# Altium footprint library SG__PCB_Chip.PcbLib: 121 footprints (part 2 of 8)
Each footprint in its own frame and in the unit in brackets; x right, y up, seen from the top. Pads: shape width x height; smd on the part's side, far side on the other; paste and mask are expansions set on the pad; w line width, h text height; cw(c..) or ccw(c..) is an arc to the next point about the centre after c.
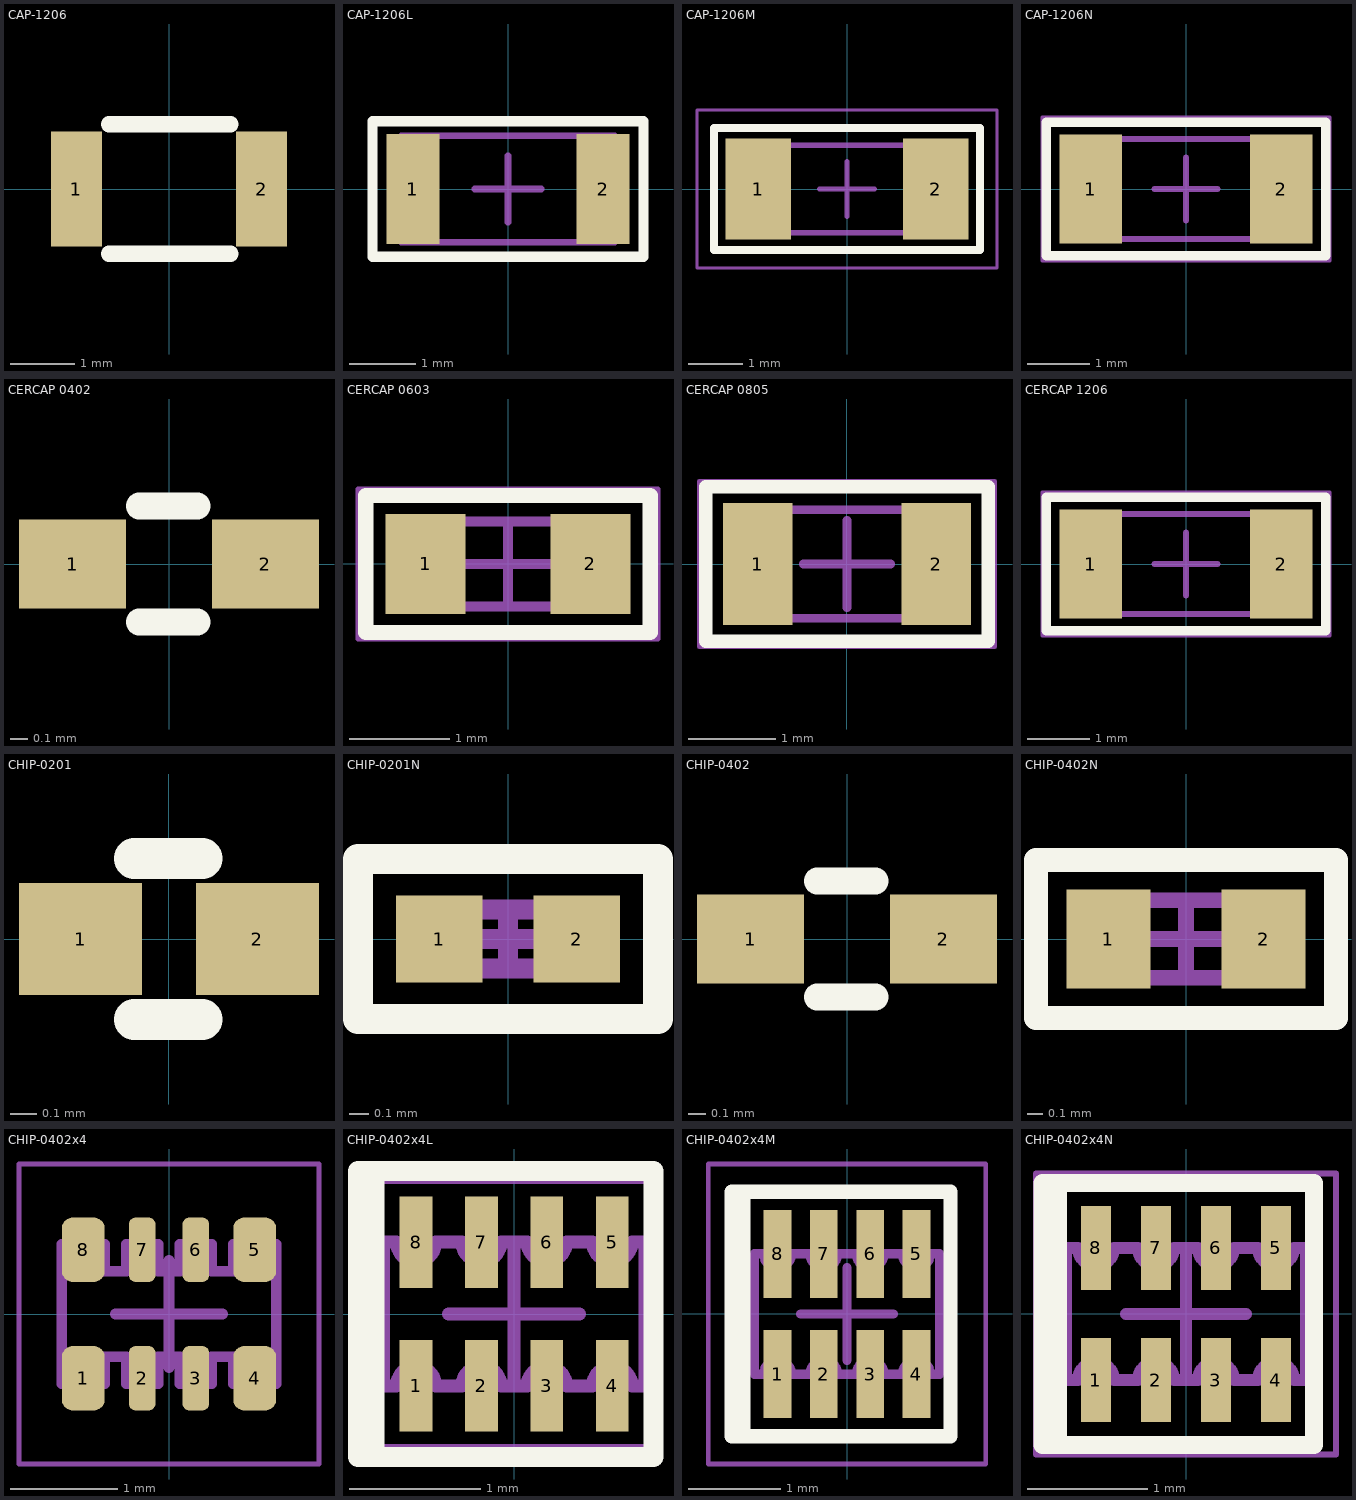
[diagram p1: the footprints below, top view; thin cyan lines are the x and y axes]

## CAP-1206 [mm]
pads (2):
  rect 0.8x1.8 smd mask+0.05: 1(-1.45,0) 2(1.45,0)
Top Overlay:
  lines w0.254: -0.942,-1.016 0.963,-1.016 ; -0.942,1.016 0.963,1.016
3D body "Chip Cap_MLCC_1206.step": height 1.15, standoff 0, extent -1.577,-0.813 1.623,0.787

## CAP-1206L [mm]
height 1.6
pads (2):
  rect 0.8x1.65 smd: 1(-1.425,0) 2(1.425,0)
Top Overlay:
  lines w0.152: -2.032,-1.016 -2.032,1.016 2.032,1.016 2.032,-1.016 1.118,-1.016 -0.182,-1.016 -2.032,-1.016
Assembly Top:
  lines w0.1: -1.6,-0.8 1.6,-0.8 1.6,0.8 -1.6,0.8 -1.6,-0.8
Courtyard Top:
  lines w0.05: -2.032,-1.016 2.032,-1.016 2.032,1.016 -2.032,1.016 -2.032,-1.016
  lines w0.1: -0.5,0 0.5,0 ; 0,-0.5 0,0.5
3D body "Chip2PinSM127P600-8N.step": height 1.6, standoff 0, extent -1.6,-0.8 1.6,0.8

## CAP-1206M [mm]
height 1.6
pads (2):
  rect 1.2x1.85 smd: 1(-1.625,0) 2(1.625,0)
Top Overlay:
  lines w0.152: -2.438,-1.118 -0.284,-1.118 1.219,-1.118 2.438,-1.118 2.438,1.118 -2.438,1.118 -2.438,-1.118
Assembly Top:
  lines w0.1: -1.6,-0.8 1.6,-0.8 1.6,0.8 -1.6,0.8 -1.6,-0.8
Courtyard Top:
  lines w0.05: -2.75,-1.45 2.75,-1.45 2.75,1.45 -2.75,1.45 -2.75,-1.45
  lines w0.1: -0.5,0 0.5,0 ; 0,-0.5 0,0.5
3D body "Chip2PinSM127P600-8N.step": height 1.6, standoff 0, extent -1.6,-0.8 1.6,0.8

## CAP-1206N [mm] "Chip Capacitor, 2-Leads, Body 3,20x1,60mm, IPC Medium Density"
height 1.6
pads (2):
  rect 1x1.75 smd: 1(-1.525,0) 2(1.525,0)
Top Overlay:
  lines w0.152: -2.235,-1.067 -0.233,-1.067 1.067,-1.067 2.235,-1.067 2.235,1.067 -2.235,1.067 -2.235,-1.067
Assembly Top:
  lines w0.1: -1.6,-0.8 -1.6,0.8 1.6,0.8 1.6,-0.8 -1.6,-0.8
Courtyard Top:
  lines w0.05: -2.3,-1.15 -2.3,1.15 2.3,1.15 2.3,-1.15 -2.3,-1.15
  lines w0.1: -0.5,0 0.5,0 ; 0,-0.5 0,0.5
3D body "CAP-1206N.step": height 1.6, standoff 0, extent -1.6,-0.8 1.6,0.8

## CERCAP 0402 [mm] "chip capacitor"
pads (2):
  rect 0.61x0.51 smd mask+0.05: 1(-0.55,0) 2(0.55,0)
Top Overlay:
  lines w0.152: -0.169,-0.33 0.161,-0.33 ; -0.169,0.33 0.161,0.33
3D body "Chip Cap_MLCC_0402.step": height 0.5, standoff 0, extent -0.491,-0.246 0.509,0.254

## CERCAP 0603 [mm] "Chip Capacitor, 2-Leads, Body 1,60x0,85mm, IPC Medium Density"
height 0.9
pads (2):
  rect 0.8x1 smd: 1(-0.825,0) 2(0.825,0)
Top Overlay:
  lines w0.152: -1.422,-0.686 1.422,-0.686 1.422,0.686 -1.422,0.686 -1.422,-0.686
Assembly Top:
  lines w0.1: -0.8,-0.425 0.8,-0.425 0.8,0.425 -0.8,0.425 -0.8,-0.425
Courtyard Top:
  lines w0.05: -1.5,-0.75 1.5,-0.75 1.5,0.75 -1.5,0.75 -1.5,-0.75
  lines w0.1: -0.425,0 0.425,0 ; 0,-0.425 0,0.425
3D body "CAPC1608X09N.step": height 0.9, standoff 0, extent -0.8,-0.425 0.8,0.425

## CERCAP 0805 [mm] "Chip Capacitor, 2-Leads, Body 2,00x1,25mm, IPC Medium Density"
height 1.3
pads (2):
  rect 0.8x1.4 smd: 1(-1.025,0) 2(1.025,0)
Top Overlay:
  lines w0.152: -1.626,-0.889 1.626,-0.889 1.626,0.889 -1.626,0.889 -1.626,-0.889
Assembly Top:
  lines w0.1: -1,-0.625 1,-0.625 1,0.625 -1,0.625 -1,-0.625
Courtyard Top:
  lines w0.05: -1.7,-0.95 1.7,-0.95 1.7,0.95 -1.7,0.95 -1.7,-0.95
  lines w0.1: -0.5,0 0.5,0 ; 0,-0.5 0,0.5
3D body "CAPC2012X13N.step": height 1.3, standoff 0, extent -1,-0.625 1,0.625

## CERCAP 1206 [mm] "Chip Capacitor, 2-Leads, Body 3,20x1,60mm, IPC Medium Density"
height 1.6
pads (2):
  rect 1x1.75 smd: 1(-1.525,0) 2(1.525,0)
Top Overlay:
  lines w0.152: -2.235,-1.067 -0.233,-1.067 1.067,-1.067 2.235,-1.067 2.235,1.067 -2.235,1.067 -2.235,-1.067
Assembly Top:
  lines w0.1: -1.6,-0.8 -1.6,0.8 1.6,0.8 1.6,-0.8 -1.6,-0.8
Courtyard Top:
  lines w0.05: -2.3,-1.15 -2.3,1.15 2.3,1.15 2.3,-1.15 -2.3,-1.15
  lines w0.1: -0.5,0 0.5,0 ; 0,-0.5 0,0.5
3D body "CAP-1206N.step": height 1.6, standoff 0, extent -1.6,-0.8 1.6,0.8

## CHIP-0201 [mm]
pads (2):
  rect 0.46x0.42 smd mask+0.05: 1(-0.33,0) 2(0.33,0)
Top Overlay:
  lines w0.152: -0.13,-0.3 0.124,-0.3 ; -0.13,0.3 0.124,0.3

## CHIP-0201N [mm]
height 0.23
pads (2):
  rect 0.44x0.44 smd: 1(-0.35,0) 2(0.35,0)
Top Overlay:
  lines w0.152: -0.711,-0.406 0.762,-0.406 0.762,0.33 0.762,0.406 -0.66,0.406 -0.762,0.406 -0.762,-0.406 -0.61,-0.406
Assembly Top:
  lines w0.1: -0.3,-0.15 -0.3,0.15 0.3,0.15 0.3,-0.15 -0.3,-0.15
Courtyard Top:
  lines w0.05: -0.762,-0.406 -0.762,0.406 0.762,0.406 0.762,-0.406 -0.762,-0.406
  lines w0.1: -0.15,0 0.15,0 ; 0,-0.15 0,0.15
3D body: height 0.23, standoff 0, extent -0.2,-0.15 0.2,0.15
3D body: height 0.23, standoff 0, extent -0.3,-0.15 -0.2,0.15
3D body: height 0.23, standoff 0, extent 0.2,-0.15 0.3,0.15

## CHIP-0402 [mm]
pads (2):
  rect 0.61x0.51 smd mask+0.05: 1(-0.55,0) 2(0.55,0)
Top Overlay:
  lines w0.152: -0.169,-0.33 0.161,-0.33 ; -0.169,0.33 0.161,0.33

## CHIP-0402N [mm]
height 0.35
pads (2):
  rect 0.54x0.64 smd: 1(-0.5,0) 2(0.5,0)
Top Overlay:
  lines w0.152: -0.965,-0.508 -0.965,-0.483 -0.965,0.508 0.305,0.508 0.965,0.508 0.965,-0.102 0.965,-0.508 -0.94,-0.508 ; -0.051,0.508 -0.025,0.508
Assembly Top:
  lines w0.1: -0.5,-0.25 0.5,-0.25 0.5,0.25 -0.5,0.25 -0.5,-0.25
Courtyard Top:
  lines w0.05: -0.965,-0.508 0.965,-0.508 0.965,0.508 -0.965,0.508 -0.965,-0.508
  lines w0.1: -0.25,0 0.25,0 ; 0,-0.25 0,0.25
3D body: height 0.35, standoff 0, extent 0.3,-0.25 0.5,0.25
3D body: height 0.35, standoff 0, extent -0.5,-0.25 -0.3,0.25
3D body: height 0.35, standoff 0, extent -0.3,-0.25 0.3,0.25

## CHIP-0402x4 [mm] "Chip Array, ConvexS, 8-Leads, Pitch 0,50mm,  Body 2,00x1,00mm,  IPC Low Density"
height 0.45
pads (8):
  rrect50% 0.4x0.6 smd mask+0.05: 1(-0.8,-0.6) 4(0.8,-0.6) 5(0.8,0.6) 8(-0.8,0.6)
  rrect50% 0.25x0.6 smd mask+0.05: 2(-0.25,-0.6) 3(0.25,-0.6) 6(0.25,0.6) 7(-0.25,0.6)
Assembly Top:
  lines w0.1: -1,-0.65 -1,0.65 -0.6,0.65 -0.6,0.4 -0.4,0.4 -0.4,0.65 -0.1,0.65 -0.1,0.4 0.1,0.4 0.1,0.65 0.4,0.65 0.4,0.4 0.6,0.4 0.6,0.65 1,0.65 1,-0.65 0.6,-0.65 0.6,-0.4 0.4,-0.4 0.4,-0.65 0.1,-0.65 0.1,-0.4 -0.1,-0.4 -0.1,-0.65 -0.4,-0.65 -0.4,-0.4 -0.6,-0.4 -0.6,-0.65 -1,-0.65
Courtyard Top:
  lines w0.05: -1.4,-1.4 -1.4,1.4 1.4,1.4 1.4,-1.4 -1.4,-1.4
  lines w0.1: -0.5,0 0.5,0 ; 0,-0.5 0,0.5
3D body: height 0.45, standoff 0, extent -1,-0.5 1,0.5

## CHIP-0402x4L [mm] "Chip Array, Concave, 8-Leads, Pitch 0,50mm,  Body 2,00x1,00mm,  IPC High Density"
height 0.45
pads (8):
  rect 0.25x0.7 smd: 1(-0.75,-0.55) 2(-0.25,-0.55) 3(0.25,-0.55) 4(0.75,-0.55) 5(0.75,0.55) 6(0.25,0.55) 7(-0.25,0.55) 8(-0.75,0.55)
Top Overlay:
  lines w0.152: -0.914,-1.092 -1.194,-1.092 -1.194,0.152 -1.194,1.092 -0.889,1.092 ; 1.067,-0.914 1.067,1.092 0.838,1.092 -0.787,1.092 -1.067,1.092 -1.067,0.432 -1.067,-1.092 0.94,-1.092 1.067,-1.092 1.067,-0.889
Assembly Top:
  lines w0.1: -1,-0.55 -0.9,-0.55 cw(c-0.75,-0.55) -0.6,-0.55 -0.4,-0.55 cw(c-0.25,-0.55) -0.1,-0.55 0.1,-0.55 cw(c0.25,-0.55) 0.4,-0.55 0.6,-0.55 cw(c0.75,-0.55) 0.9,-0.55 1,-0.55 1,0.55 0.9,0.55 cw(c0.75,0.55) 0.6,0.55 0.4,0.55 cw(c0.25,0.55) 0.1,0.55 -0.1,0.55 cw(c-0.25,0.55) -0.4,0.55 -0.6,0.55 cw(c-0.75,0.55) -0.9,0.55 -1,0.55 -1,-0.55
Courtyard Top:
  lines w0.05: -1.1,-1.02 1.1,-1.02 1.1,1.02 -1.1,1.02 -1.1,-1.02
  lines w0.1: -0.5,0 0.5,0 ; 0,-0.5 0,0.5
3D body "CAC-50P200X100-8L.step": height 0.45, standoff 0, extent -1,-0.55 1,0.55

## CHIP-0402x4M [mm] "Chip Array, Concave, 8-Leads, Pitch 0,50mm,  Body 2,00x1,00mm,  IPC Low Density"
height 0.45
pads (8):
  rect 0.3x0.95 smd: 1(-0.75,-0.65) 2(-0.25,-0.65) 3(0.25,-0.65) 4(0.75,-0.65) 5(0.75,0.65) 6(0.25,0.65) 7(-0.25,0.65) 8(-0.75,0.65)
Top Overlay:
  lines w0.152: -1.067,-1.321 -1.245,-1.321 -1.245,-0.813 -1.245,0.787 -1.245,1.321 -0.991,1.321 ; -1.118,-1.321 -0.407,-1.321 1.117,-1.321 1.117,-1.245 1.117,1.321 0.584,1.321 -0.813,1.321 -1.118,1.321 -1.118,1.016 -1.118,-1.321
Assembly Top:
  lines w0.1: -1,-0.65 -0.9,-0.65 cw(c-0.75,-0.65) -0.6,-0.65 -0.4,-0.65 cw(c-0.25,-0.65) -0.1,-0.65 0.1,-0.65 cw(c0.25,-0.65) 0.4,-0.65 0.6,-0.65 cw(c0.75,-0.65) 0.9,-0.65 1,-0.65 1,0.65 0.9,0.65 cw(c0.75,0.65) 0.6,0.65 0.4,0.65 cw(c0.25,0.65) 0.1,0.65 -0.1,0.65 cw(c-0.25,0.65) -0.4,0.65 -0.6,0.65 cw(c-0.75,0.65) -0.9,0.65 -1,0.65 -1,-0.65
Courtyard Top:
  lines w0.05: -1.5,-1.62 -1.5,1.62 1.5,1.62 1.5,-1.62 -1.5,-1.62
  lines w0.1: -0.5,0 0.5,0 ; 0,-0.5 0,0.5
3D body "CAC-50P200X100-8M.step": height 0.45, standoff 0, extent -1,-0.55 1,0.55

## CHIP-0402x4N [mm] "Chip Array, Concave, 8-Leads, Pitch 0,50mm,  Body 2,00x1,00mm,  IPC Medium Density"
height 0.45
pads (8):
  rect 0.25x0.7 smd: 1(-0.75,-0.55) 2(-0.25,-0.55) 3(0.25,-0.55) 4(0.75,-0.55) 5(0.75,0.55) 6(0.25,0.55) 7(-0.25,0.55) 8(-0.75,0.55)
Top Overlay:
  lines w0.152: -1.016,-1.093 -1.194,-1.093 -1.194,0.965 -1.194,1.092 -0.966,1.092 ; -0.661,-1.093 1.066,-1.093 1.066,0.203 1.066,1.092 0.812,1.092 -0.889,1.092 -1.067,1.092 -1.067,-0.051 -1.067,-1.093 -0.585,-1.093
Assembly Top:
  lines w0.1: -1,-0.55 -1,0.55 -0.9,0.55 ccw(c-0.75,0.55) -0.6,0.55 -0.4,0.55 ccw(c-0.25,0.55) -0.1,0.55 0.1,0.55 ccw(c0.25,0.55) 0.4,0.55 0.6,0.55 ccw(c0.75,0.55) 0.9,0.55 1,0.55 1,-0.55 0.9,-0.55 ccw(c0.75,-0.55) 0.6,-0.55 0.4,-0.55 ccw(c0.25,-0.55) 0.1,-0.55 -0.1,-0.55 ccw(c-0.25,-0.55) -0.4,-0.55 -0.6,-0.55 ccw(c-0.75,-0.55) -0.9,-0.55 -1,-0.55
Courtyard Top:
  lines w0.05: -1.25,-1.17 1.25,-1.17 1.25,1.17 -1.25,1.17 -1.25,-1.17
  lines w0.1: -0.5,0 0.5,0 ; 0,-0.5 0,0.5
3D body "CAC-50P200X100-8N.step": height 0.45, standoff 0, extent -1,-0.55 1,0.55